# Altium schematic symbol library con-panasonic.SCHLIB: 1 symbol
Pins are listed as number, name and electrical type; pins without a type are passive.

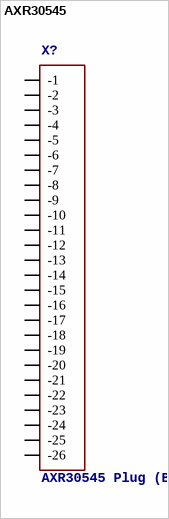
[diagram p0: symbol AXR30545]

## AXR30545
designator X?, comment AXR30545 Plug (Board mounting type) B type   Source: http://www.panasonic-electric-works.ch/home/www/catalogues/connector/download/en_ds_65201_0000.pdf
MPN: AXR30545; OC_FARNELL: unknown; OC_NEWARK: 11N4069
footprint AXR30545
pins: 1 -1, 2 -2, 3 -3, 4 -4, 5 -5, 6 -6, 7 -7, 8 -8, 9 -9, 10 -10, 11 -11, 12 -12, 13 -13, 14 -14, 15 -15, 16 -16, 17 -17, 18 -18, 19 -19, 20 -20, 21 -21, 22 -22, 23 -23, 24 -24, 25 -25, 26 -26